# Altium footprint library 50x2Hole.PcbLib: 1 footprints
Each footprint in its own frame and in the unit in brackets; x right, y up, seen from the top. Pads: shape width x height; smd on the part's side, far side on the other; paste and mask are expansions set on the pad; w line width, h text height; cw(c..) or ccw(c..) is an arc to the next point about the centre after c.
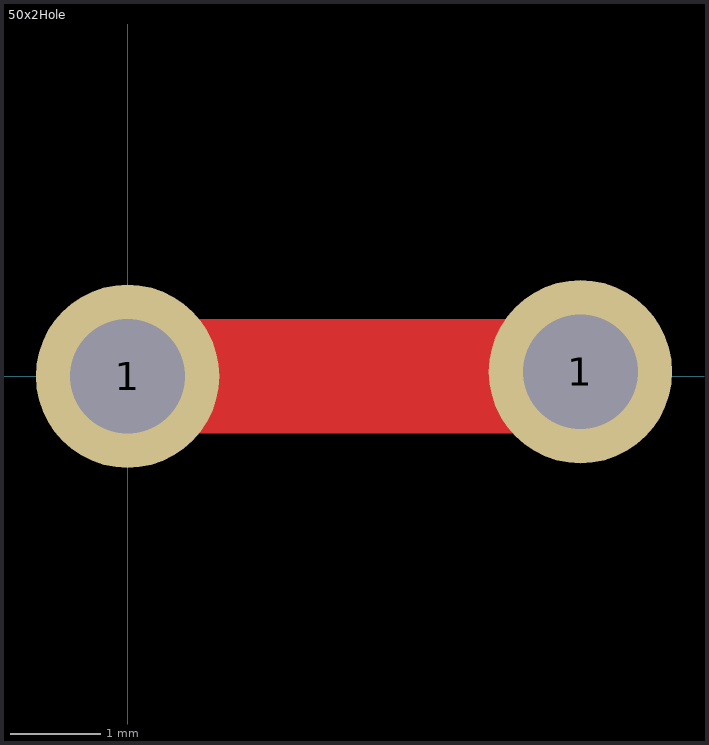
[diagram p0: the footprint, top view; thin cyan lines are the x and y axes]

## 50x2Hole [mil]
pads (2):
  round 80 hole 50: 1(0,0) 1(197.48,1.95)
TopLayer:
  lines w50: 0,0 195.53,0
3D body: height 1, standoff 0, extent 174.67,-21 220.49,24.91
3D body: height 1, standoff 0, extent -22.81,-22.95 23,22.96